# Altium footprint library SWITCHCRAFT_L722RA.PcbLib: 1 footprints
Each footprint in its own frame and in the unit in brackets; x right, y up, seen from the top. Pads: shape width x height; smd on the part's side, far side on the other; paste and mask are expansions set on the pad; w line width, h text height; cw(c..) or ccw(c..) is an arc to the next point about the centre after c.
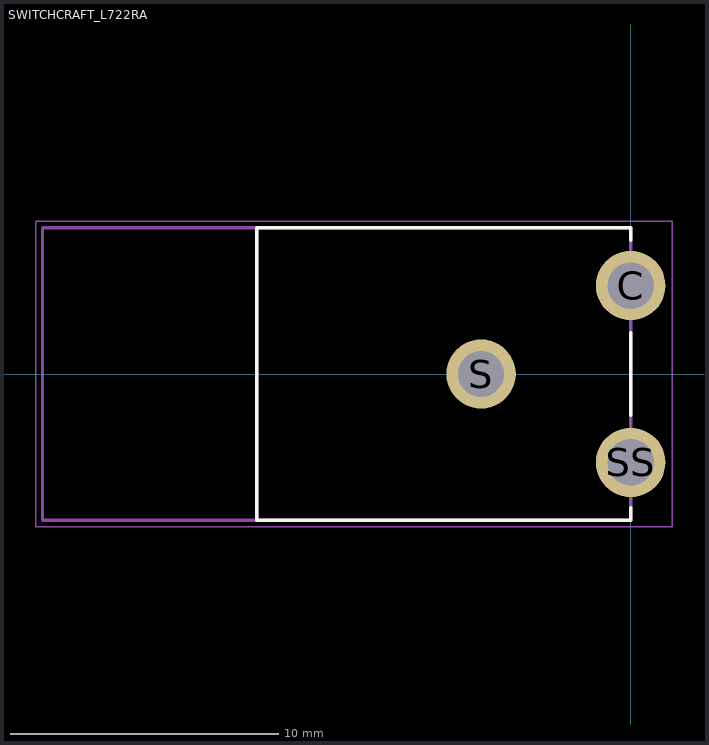
[diagram p0: the footprint, top view; thin cyan lines are the x and y axes]

## SWITCHCRAFT_L722RA [mm]
pads (3):
  round 2.595 hole 1.73: C(0,3.302) S(-5.588,0) SS(0,-3.302)
Top Overlay:
  lines w0.127: 0,-5 0,-5.461 -13.97,-5.461 -13.97,5.461 0,5.461 0,5 ; 0,-1.55 0,1.55
Mechanical 13:
  lines w0.127: -13.97,-5.461 -13.97,5.461 ; -13.97,-5.461 -21.971,-5.461 -21.971,5.461 -13.97,5.461 ; -13.97,-5.461 0,-5.461 0,5.461 -13.97,5.461
Mechanical 15:
  lines w0.05: -22.221,-5.711 -22.221,5.711 1.55,5.711 1.55,-5.711 -22.221,-5.711
3D body "L722RAS.step": height 19.24, standoff -0.56, extent -24.793,-7.861 1.476,7.887